# Altium footprint library Special.PcbLib: 27 footprints (part 1 of 2)
Each footprint in its own frame and in the unit in brackets; x right, y up, seen from the top. Pads: shape width x height; smd on the part's side, far side on the other; paste and mask are expansions set on the pad; w line width, h text height; cw(c..) or ccw(c..) is an arc to the next point about the centre after c.
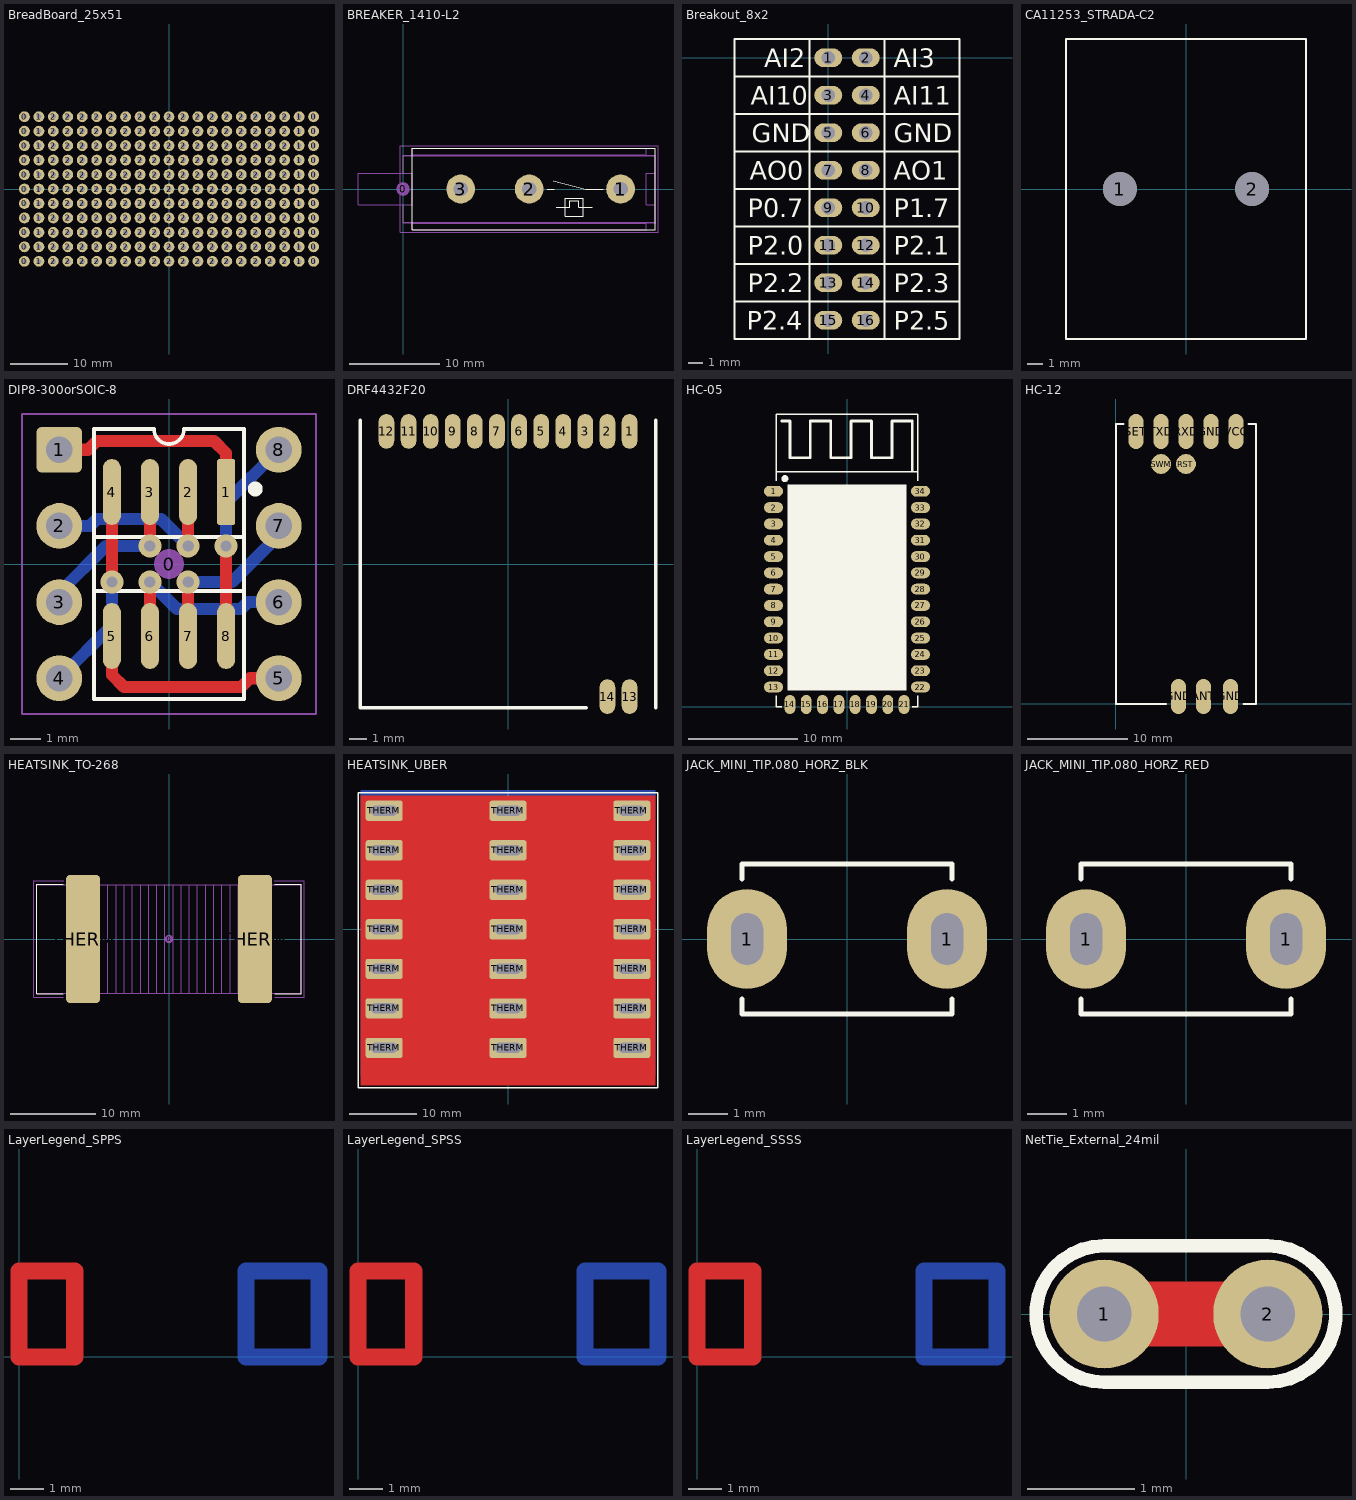
[diagram p0: the footprints below, top view; thin cyan lines are the x and y axes]

## BreadBoard_25x51 [mil] "Small 1\"x2\" breadboard section"
pads (231):
  round 75 hole 35: 0(-1000,-500) 0(-1000,-400) 0(-1000,-300) 0(-1000,-200) 0(-1000,-100) 0(-1000,0) 0(-1000,100) 0(-1000,200) 0(-1000,300) 0(-1000,400) 0(-1000,500) 0(1000,-500) 0(1000,-400) 0(1000,-300) 0(1000,-200) 0(1000,-100) 0(1000,0) 0(1000,100) 0(1000,200) 0(1000,300) 0(1000,400) 0(1000,500) 1(-900,-500) 1(-900,-400) 1(-900,-300) 1(-900,-200) 1(-900,-100) 1(-900,0) 1(-900,100) 1(-900,200) 1(-900,300) 1(-900,400) 1(-900,500) 1(900,-500) 1(900,-400) 1(900,-300) 1(900,-200) 1(900,-100) 1(900,0) 1(900,100) 1(900,200) 1(900,300) 1(900,400) 1(900,500) 2(-800,-500) 2(-800,-400) 2(-800,-300) 2(-800,-200) 2(-800,-100) 2(-800,0) 2(-800,100) 2(-800,200) 2(-800,300) 2(-800,400) 2(-800,500) 2(-700,-500) 2(-700,-400) 2(-700,-300) 2(-700,-200) 2(-700,-100) 2(-700,0) 2(-700,100) 2(-700,200) 2(-700,300) 2(-700,400) 2(-700,500) 2(-600,-500) 2(-600,-400) 2(-600,-300) 2(-600,-200) 2(-600,-100) 2(-600,0) 2(-600,100) 2(-600,200) 2(-600,300) 2(-600,400) 2(-600,500) 2(-500,-500) 2(-500,-400) 2(-500,-300) 2(-500,-200) 2(-500,-100) 2(-500,0) 2(-500,100) 2(-500,200) 2(-500,300) 2(-500,400) 2(-500,500) 2(-400,-500) 2(-400,-400) 2(-400,-300) 2(-400,-200) 2(-400,-100) 2(-400,0) 2(-400,100) 2(-400,200) 2(-400,300) 2(-400,400) 2(-400,500) 2(-300,-500) 2(-300,-400) 2(-300,-300) 2(-300,-200) 2(-300,-100) 2(-300,0) 2(-300,100) 2(-300,200) 2(-300,300) 2(-300,400) 2(-300,500) 2(-200,-500) 2(-200,-400) 2(-200,-300) 2(-200,-200) 2(-200,-100) 2(-200,0) 2(-200,100) 2(-200,200) 2(-200,300) 2(-200,400) 2(-200,500) 2(-100,-500) 2(-100,-400) 2(-100,-300) 2(-100,-200) 2(-100,-100) 2(-100,0) 2(-100,100) 2(-100,200) 2(-100,300) 2(-100,400) 2(-100,500) 2(0,-500) 2(0,-400) 2(0,-300) 2(0,-200) 2(0,-100) 2(0,0) 2(0,100) 2(0,200) 2(0,300) 2(0,400) 2(0,500) 2(100,-500) 2(100,-400) 2(100,-300) 2(100,-200) 2(100,-100) 2(100,0) 2(100,100) 2(100,200) 2(100,300) 2(100,400) 2(100,500) 2(200,-500) 2(200,-400) 2(200,-300) 2(200,-200) 2(200,-100) 2(200,0) 2(200,100) 2(200,200) 2(200,300) 2(200,400) 2(200,500) 2(300,-500) 2(300,-400) 2(300,-300) 2(300,-200) 2(300,-100) 2(300,0) 2(300,100) 2(300,200) 2(300,300) 2(300,400) 2(300,500) 2(400,-500) 2(400,-400) 2(400,-300) 2(400,-200) 2(400,-100) 2(400,0) 2(400,100) 2(400,200) 2(400,300) 2(400,400) 2(400,500) 2(500,-500) 2(500,-400) 2(500,-300) 2(500,-200) 2(500,-100) 2(500,0) 2(500,100) 2(500,200) 2(500,300) 2(500,400) 2(500,500) 2(600,-500) 2(600,-400) 2(600,-300) 2(600,-200) 2(600,-100) 2(600,0) 2(600,100) 2(600,200) 2(600,300) 2(600,400) 2(600,500) 2(700,-500) 2(700,-400) 2(700,-300) 2(700,-200) 2(700,-100) 2(700,0) 2(700,100) 2(700,200) 2(700,300) 2(700,400) 2(700,500) 2(800,-500) 2(800,-400) 2(800,-300) 2(800,-200) 2(800,-100) 2(800,0) 2(800,100) 2(800,200) 2(800,300) 2(800,400) 2(800,500)

## BREAKER_1410-L2 [mm] "E-T-A Thermal Overcurrent Circuit Breaker 1410-L2"
height 10.8
pads (4):
  round 1.5 on Mech15: 0(0,0)
  round 3.2 hole 1.6: 1(24.15,0) 2(14,0) 3(6.4,0)
Top Overlay:
  lines w0.127: 16,0 16.8,0 ; 16.7,0.9 20.3,0 22.2,0 ; 17,-2 18.5,-2 18.5,-1.3 19.5,-1.3 19.5,-2 21,-2 ; 1,-4.5 28,-4.5 28,4.5 1,4.5 1,-4.5 ; 18,-3 20,-3 20,-1 18,-1 18,-3
13 - 3D Top Side:
  lines w0.05: 0,-3.7 28,-3.7 ; 0,-1.8 0.05,-1.75 ; 0,-1.75 0,-3.75 28,-3.75 28,3.75 0,3.75 0,1.75 ; 0,1.8 0.05,1.75 ; 0,3.7 28,3.7 ; 1,-3.8 27,-3.8 ; 1,-3.75 1,-4.5 27,-4.5 27,-3.75 ; 1,3.75 1,4.5 27,4.5 27,3.75 ; 1,3.8 27,3.8 ; 28,-1.8 27.95,-1.75 ; 28,-1.7 27.95,-1.75 ; 28,1.7 27.95,1.75 ; 28,1.8 27.95,1.75 ; 27.95,-1.75 27,-1.75 27,1.75 27.95,1.75 ; -5,-1.75 1,-1.75 1,1.75 -5,1.75 -5,-1.75
15 - Top Courtyards:
  lines w0.127: -0.3,-4.8 -0.3,4.8 28.3,4.8 28.3,-4.8 -0.3,-4.8
3D body "Circuit Breaker 1410-L2.STEP": height 10.8, standoff -3.3, extent -5,-4.5 28,4.5

## Breakout_8x2 [mil] "Small DAQ breakout for hookup to breadboard section"
pads (16):
  oval 75x50 hole 35: 1(0,0) 2(100,0) 3(0,-100) 4(100,-100) 5(0,-200) 6(100,-200) 7(0,-300) 8(100,-300) 9(0,-400) 10(100,-400) 11(0,-500) 12(100,-500) 13(0,-600) 14(100,-600) 15(0,-700) 16(100,-700)
Top Overlay:
  lines w5: -250,-650 350,-650 ; -250,-550 350,-550 ; -250,-450 350,-450 ; -250,-350 350,-350 ; -250,-250 350,-250 ; -250,-150 350,-150 ; -250,-50 350,-50 ; -50,-750 -50,50 ; -50,-750 150,-750 ; -50,-750 -250,-750 -250,50 -50,50 ; -50,50 150,50 ; 150,-750 150,50 ; 150,-750 350,-750 350,50 150,50
  text "AI3" at 175,-25 h50
  text "AI11" at 175,-125 h50
  text "P2.0" at -215,-525 h50
  text "P2.2" at -215,-625 h50
  text "P2.4" at -217.38,-725 h50
  text "P2.1" at 175,-525 h50
  text "P2.3" at 175,-625 h50
  text "P2.5" at 175,-725 h50
  text "P1.7" at 175,-425 h50
  text "P0.7" at -215,-425 h50
  text "AO1" at 175,-325 h50
  text "AO0" at -209.76,-325 h50
  text "AI10" at -207.14,-125 h50
  text "AI2" at -170.49,-25 h50
  text "GND" at -204.53,-225 h50
  text "GND" at 175,-225 h50

## CA11253_STRADA-C2 [mm]
pads (2):
  round 2.2 hole 2.2 unplated: 1(-4.3,0) 2(4.3,0)
Top Overlay:
  lines w0.15: -7.8,-9.75 -7.8,9.75 7.8,9.75 7.8,-9.75 -7.8,-9.75
3D body "20100108_ol_CA11253_Strada-C2-tape_mechModel.stp": height 5.87, standoff -1.03, extent -7.757,-9.807 7.757,9.807

## DIP8-300orSOIC-8 [mil] "DIP, 8-Leads, 0.300\" lead span , 0.100\" lead pitch, IPC Density A"
height 210
pads (17):
  round 39.37 on Mech15: 0(0,0)
  rrect25% 60x60 hole 35: 1(-144,150)
  rrect25% 23.62x86.61 smd paste-78.74: 1(75,94.49)
  round 60 hole 35: 2(-144,50) 3(-144,-50) 4(-144,-150) 5(144,-150) 6(144,-50) 7(144,50) 8(144,150)
  oval 23.62x86.61 smd paste-78.74: 2(25,94.49) 3(-25,94.49) 4(-75,94.49) 5(-75,-94.49) 6(-25,-94.49) 7(25,-94.49) 8(75,-94.49)
via 25,-23.62 diameter 30 hole 15
via -25,-23.62 diameter 30 hole 15
via 25,23.62 diameter 30 hole 15
via -25,23.62 diameter 30 hole 15
via 74.8,23.62 diameter 30 hole 15
via -74.8,-23.62 diameter 30 hole 15
Top Layer:
  lines w16: -144,150 -106.3,150 -94.88,161.42 59.06,161.42 75,145.47 75,94.49 ; -75,-94.49 -75,-145.47 -59.06,-161.42 94.88,-161.42 106.3,-150 144,-150 ; -75,-23.43 -75,94.49 ; -25,-94.49 -25,-23.62 ; -25,23.62 -25,94.49 ; 25,-94.49 25,-23.62 ; 25,23.62 25,94.49 ; 75,-94.49 75,23.43
Bottom Layer:
  lines w16: -144,-150 -74.8,-80.8 -74.8,-23.62 ; -144,-50 -144,-37.7 -82.68,23.62 -25,23.62 ; -144,50 -103.54,50 -94.49,59.06 -10.43,59.06 25,23.62 ; -25,-23.62 10.43,-59.06 94.49,-59.06 103.54,-50 144,-50 ; 25,-23.62 82.68,-23.62 132.68,26.38 132.68,50 144,50 ; 74.8,23.62 74.8,80.8 144,150
Top Overlay:
  circle w9.84: c113.19,98.43 r4.92
  lines w5: -98.43,-177.17 -98.43,177.17 -19.69,177.17 ccw(c0,177.17) 19.69,177.17 98.43,177.17 98.43,-177.17 -98.43,-177.17 ; -98.43,-35.43 98.43,-35.43 98.43,35.43 -98.43,35.43 -98.43,-35.43
Top Paste:
  region: -84.45,-59.84 -84.45,-129.13 -65.55,-129.13 -65.55,-59.84
  region: -34.45,-59.84 -34.45,-129.13 -15.55,-129.13 -15.55,-59.84
  region: 15.55,-59.84 15.55,-129.13 34.45,-129.13 34.45,-59.84
  region: 65.55,-59.84 65.55,-129.13 84.45,-129.13 84.45,-59.84
  region: -84.45,129.13 -84.45,59.84 -65.55,59.84 -65.55,129.13
  region: -34.45,129.13 -34.45,59.84 -15.55,59.84 -15.55,129.13
  region: 15.55,129.13 15.55,59.84 34.45,59.84 34.45,129.13
  region: 65.55,129.13 65.55,59.84 84.45,59.84 84.45,129.13
13 - 3D Top Side:
  lines w3: -98.43,-177.17 98.43,-177.17 98.43,177.17 19.69,177.17 cw(c0,177.17) -19.69,177.17 -98.43,177.17 -98.43,-177.17
15 - Top Courtyards:
  lines w3: -192.91,-196.85 -192.91,196.85 192.91,196.85 192.91,-196.85 -192.91,-196.85
3D body "SW3DPS-DIP8-DEFAULT.STEP": height 165, standoff -105, extent -149,-225 161,225

## DRF4432F20 [mm]
height 2
pads (14):
  oval 0.9x2 smd: 1(6.985,7.62) 2(5.715,7.62) 3(4.445,7.62) 4(3.175,7.62) 5(1.905,7.62) 6(0.635,7.62) 7(-0.635,7.62) 8(-1.905,7.62) 9(-3.175,7.62) 10(-4.445,7.62) 11(-5.715,7.62) 12(-6.985,7.62) 13(6.985,-7.62) 14(5.715,-7.62)
Top Overlay:
  lines w0.2: -8.5,8.25 -8.5,-8.25 4.5,-8.25 ; 8.5,-8.25 8.5,8.25
3D body: height 1.27, standoff 0, extent -8.5,-8.25 8.5,8.25

## HC-05 [mm]
pads (34):
  oval 1.75x1 smd: 1(-6.75,19.8) 2(-6.75,18.3) 3(-6.75,16.8) 4(-6.75,15.3) 5(-6.75,13.8) 6(-6.75,12.3) 7(-6.75,10.8) 8(-6.75,9.3) 9(-6.75,7.8) 10(-6.75,6.3) 11(-6.75,4.8) 12(-6.75,3.3) 13(-6.75,1.8) 22(6.75,1.8) 23(6.75,3.3) 24(6.75,4.8) 25(6.75,6.3) 26(6.75,7.8) 27(6.75,9.3) 28(6.75,10.8) 29(6.75,12.3) 30(6.75,13.8) 31(6.75,15.3) 32(6.75,16.8) 33(6.75,18.3) 34(6.75,19.8)
  oval 1x1.75 smd: 14(-5.25,0.2) 15(-3.75,0.2) 16(-2.25,0.2) 17(-0.75,0.2) 18(0.75,0.2) 19(2.25,0.2) 20(3.75,0.2) 21(5.25,0.2)
Top Overlay:
  circle w0.381: c-5.715,20.955 r0.127
  region: -5.462,20.383 5.461,20.383 5.461,1.5 -5.462,1.5
  lines w0.127: -6.5,1 -6.5,0 -6,0 ; -6.5,20.75 -6.5,21.59 ; 6,0 6.5,0 6.5,1 ; 6.5,20.75 6.5,21.59 ; -6.5,21.59 -6.5,26.9 6.5,26.9 6.5,21.59 ; -6.5,21.59 6.5,21.59
  lines w0.254: -5.994,26.25 -5.25,26.25 -5.25,22.875 -3.375,22.875 -3.375,26.25 -1.5,26.25 -1.5,22.875 0.375,22.875 0.375,26.25 2.25,26.25 2.25,22.875 4.125,22.875 4.125,26.25 6,26.25 6,21.65
3D body "User Library-Bluetooth HC-06_.SLDPRT": height 2.36, standoff 0.01, extent -7.01,0.04 7.01,28.05

## HC-12 [mm]
pads (10):
  oval 1.5x3.5 smd mask+0.102: ANT(8.75,0.75) GND(6.25,0.75) GND(9.5,27.25) GND(11.45,0.75) RXD(7,27.25) SET(2,27.25) TXD(4.5,27.25) VCC(12,27.25)
  round 2 smd mask+0.102: RST(6.993,24) SWM(4.5,24)
Top Overlay:
  lines w0.22: 0.75,28 0,28 0,0 5,0 ; 12.75,0 14,0 14,28 13.25,28
3D body: height 2, standoff 0, extent 0,0 14,28

## HEATSINK_TO-268 [mm] "SMD heatsink for use with TO-268 / D3-PAK component"
height 10.16
pads (3):
  round 1 on Mech15: 0(0,0)
  rrect25% 4x15 smd: THERM(-10.05,0) THERM(10.05,0)
Top Overlay:
  lines w0.127: -12.4,-6.4 -15.5,-6.4 -15.5,6.4 -12.4,6.4 ; 12.4,-6.4 15.5,-6.4 15.5,6.4 12.4,6.4
13 - 3D Top Side:
  lines w0.05: -10.275,-6.35 -10.275,-6.477 -8.775,-6.477 -8.775,-6.35 ; -10.275,6.35 -10.275,6.477 -8.775,6.477 -8.775,6.35 ; -9.366,-6.35 -9.366,6.35 ; -8.096,-6.35 -8.096,6.35 ; -7.144,-6.35 -7.144,6.35 ; -6.191,-6.35 -6.191,6.35 ; -5.239,-6.35 -5.239,6.35 ; -4.286,-6.35 -4.286,6.35 ; -3.334,-6.35 -3.334,6.35 ; -2.381,-6.35 -2.381,6.35 ; -1.429,-6.35 -1.429,6.35 ; -0.476,-6.35 -0.476,6.35 ; 0.476,-6.35 0.476,6.35 ; 1.429,-6.35 1.429,6.35 ; 2.381,-6.35 2.381,6.35 ; 3.334,-6.35 3.334,6.35 ; 4.286,-6.35 4.286,6.35 ; 5.239,-6.35 5.239,6.35 ; 6.191,-6.35 6.191,6.35 ; 7.144,-6.35 7.144,6.35 ; 8.096,-6.35 8.096,6.35 ; 8.775,-6.35 8.775,-6.477 10.275,-6.477 10.275,-6.35 ; 8.775,6.35 8.775,6.477 10.275,6.477 10.275,6.35 ; 9.366,-6.35 9.366,6.35 ; -15.5,-6.35 15.5,-6.35 15.5,6.35 -15.5,6.35 -15.5,-6.35
15 - Top Courtyards:
  lines w0.127: -12.4,-6.8 -15.8,-6.8 -15.8,6.8 -12.3,6.8 ; 12.3,6.8 15.8,6.8 15.8,-6.8 12.4,-6.8
3D body "Ohmite Style 10 Heatsink.STEP": height 10.16, standoff 0.01, extent -15.5,-6.477 15.5,6.477

## HEATSINK_UBER [mm]
height 60
pads (21):
  rrect20% 5.5x3 hole 1.5 slot 4 at 0 deg: THERM(-18.5,-17.7) THERM(-18.5,-11.8) THERM(-18.5,-5.9) THERM(-18.5,0) THERM(-18.5,5.9) THERM(-18.5,11.8) THERM(-18.5,17.7) THERM(0,-17.7) THERM(0,-11.8) THERM(0,-5.9) THERM(0,0) THERM(0,5.9) THERM(0,11.8) THERM(0,17.7) THERM(18.5,-17.7) THERM(18.5,-11.8) THERM(18.5,-5.9) THERM(18.5,0) THERM(18.5,5.9) THERM(18.5,11.8) THERM(18.5,17.7)
Top Layer:
  rectangle: -22,-23.3 22,20
Bottom Layer:
  region: 22,20.8 -22,20.8 -22,-22 22,-22
Top Overlay:
  lines w0.2: -22.4,-23.7 22.4,-23.7 22.4,20.4 -22.4,20.4 -22.4,-23.7
13 - 3D Top Side:
  lines w0.05: -15.5,-18.395 -3,-18.395 ; -15.5,-18.145 -15.5,-22.443 -3,-22.443 -3,-18.145 ; -15.5,-12.495 -3,-12.495 ; -15.5,-12.245 -15.5,-16.543 -3,-16.543 -3,-12.245 ; -15.5,-6.595 -3,-6.595 ; -15.5,-6.345 -15.5,-10.643 -3,-10.643 -3,-6.345 ; -15.5,-0.694 -3,-0.694 ; -15.5,-0.445 -15.5,-4.743 -3,-4.743 -3,-0.445 ; -15.5,5.206 -3,5.206 ; -15.5,5.456 -15.5,1.157 -3,1.157 -3,5.456 ; -15.5,11.106 -3,11.106 ; -15.5,11.356 -15.5,7.057 -3,7.057 -3,11.356 ; -15.5,17.006 -3,17.006 ; -15.5,17.256 -15.5,12.957 -3,12.957 -3,17.256 ; 3,-18.395 15.5,-18.395 ; 3,-18.145 3,-22.443 15.5,-22.443 15.5,-18.145 ; 3,-12.495 15.5,-12.495 ; 3,-12.245 3,-16.543 15.5,-16.543 15.5,-12.245 ; 3,-6.595 15.5,-6.595 ; 3,-6.345 3,-10.643 15.5,-10.643 15.5,-6.345 ; 3,-0.694 15.5,-0.694 ; 3,-0.445 3,-4.743 15.5,-4.743 15.5,-0.445 ; 3,5.206 15.5,5.206 ; 3,5.456 3,1.157 15.5,1.157 15.5,5.456 ; 3,11.106 15.5,11.106 ; 3,11.356 3,7.057 15.5,7.057 15.5,11.356 ; 3,17.006 15.5,17.006 ; 3,17.256 3,12.957 15.5,12.957 15.5,17.256 ; -20,-18.145 20,-18.145 20,-17.256 -20,-17.256 -20,-18.145 ; -20,-12.245 -20,-11.356 20,-11.356 20,-12.245 -20,-12.245 ; -20,-6.345 -20,-5.456 20,-5.456 20,-6.345 -20,-6.345 ; -20,-0.445 -20,0.445 20,0.445 20,-0.445 -20,-0.445 ; -20,5.456 -20,6.345 20,6.345 20,5.456 -20,5.456 ; -20,11.356 -20,12.245 20,12.245 20,11.356 -20,11.356 ; -20,17.256 -20,18.145 20,18.145 20,17.256 -20,17.256
3D body "heatsink assy.STEP": height 60, standoff -2.48, extent -20,-22.442 20,19.945

## JACK_MINI_TIP.080_HORZ_BLK [mil] "TIP JACK, MINIATURE HORIZONTAL PC MOUNT FOR .080 DIA PLUG"
height 213
pads (2):
  oval 80x100 hole 32 slot 52 at 90 deg: 1(-100,0) 1(100,0)
Top Overlay:
  lines w5: -105,-60 -105,-75 105,-75 105,-60 ; -105,60 -105,75 105,75 105,60
3D body "TipJack .080 Dia black with plug.STEP": height 224.41, standoff -125, extent -1008.68,-99.89 226.32,99.68

## JACK_MINI_TIP.080_HORZ_RED [mil] "TIP JACK, MINIATURE HORIZONTAL PC MOUNT FOR .080 DIA PLUG"
height 213
pads (2):
  oval 80x100 hole 32 slot 52 at 90 deg: 1(-100,0) 1(100,0)
Top Overlay:
  lines w5: -105,-60 -105,-75 105,-75 105,-60 ; -105,60 -105,75 105,75 105,60
3D body "TipJack .080 Dia red with plug.STEP": height 224.41, standoff -125, extent -1008.68,-99.89 226.32,99.68

## LayerLegend_SPPS [mil]
Top Layer:
  lines w20: 0,0 0,100 65,100 65,0 0,0
  text "1" at 25,25 h50
Mid-Layer 1:
  rectangle: 160,10 340,90
  rectangle: 10,10 75,90
  text "2" at 100,25 h50
Mid-Layer 2:
  rectangle: 255,10 340,90
  rectangle: 10,10 170,90
  text "3" at 195,25 h50
Bottom Layer:
  lines w20: 265,0 265,100 350,100 350,0 265,0
  text "4" at 290,25 h50

## LayerLegend_SPSS [mil]
Top Layer:
  lines w20: 0,0 65,0 65,100 0,100 0,0
  text "1" at 25,25 h50
Mid-Layer 1:
  rectangle: 10,10 75,90
  rectangle: 160,10 340,90
  text "2" at 100,25 h50
Mid-Layer 2:
  lines w20: 170,0 255,0 255,100 170,100 170,0
  text "3" at 195,25 h50
Bottom Layer:
  lines w20: 265,0 350,0 350,100 265,100 265,0
  text "4" at 290,25 h50

## LayerLegend_SSSS [mil]
Top Layer:
  lines w20: 0,0 65,0 65,100 0,100 0,0
  text "1" at 25,25 h50
Mid-Layer 1:
  lines w20: 75,0 160,0 160,100 75,100 75,0
  text "2" at 100,25 h50
Mid-Layer 2:
  lines w20: 170,0 255,0 255,100 170,100 170,0
  text "3" at 195,25 h50
Bottom Layer:
  lines w20: 265,0 350,0 350,100 265,100 265,0
  text "4" at 290,25 h50

## NetTie_External_24mil [mil]
pads (2):
  round 40 hole 20: 1(-30,0) 2(30,0)
Top Layer:
  lines w24: -30,0 30,0
Top Overlay:
  lines w5: -30,-25 cw(c-30,0) -30,25 30,25 cw(c30,0) 30,-25 -30,-25
Top Solder:
  rectangle: -30,-18 30,18